# Altium footprint library 电机驱动芯片.PcbLib: 2 footprints
Each footprint in its own frame and in the unit in brackets; x right, y up, seen from the top. Pads: shape width x height; smd on the part's side, far side on the other; paste and mask are expansions set on the pad; w line width, h text height; cw(c..) or ccw(c..) is an arc to the next point about the centre after c.
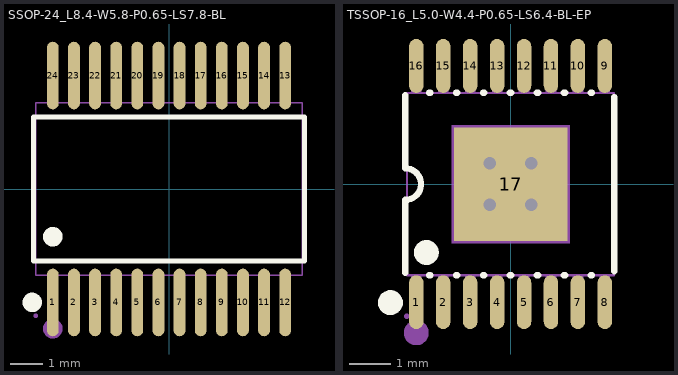
[diagram p0: the footprints below, top view; thin cyan lines are the x and y axes]

## SSOP-24_L8.4-W5.8-P0.65-LS7.8-BL [mm]
pads (24):
  oval 0.364x2.082 smd: 1(-3.575,-3.491) 2(-2.925,-3.491) 3(-2.275,-3.491) 4(-1.625,-3.491) 5(-0.975,-3.491) 6(-0.325,-3.491) 7(0.325,-3.491) 8(0.975,-3.491) 9(1.625,-3.491) 10(2.275,-3.491) 11(2.925,-3.491) 12(3.575,-3.491) 13(3.575,3.491) 14(2.925,3.491) 15(2.275,3.491) 16(1.625,3.491) 17(0.975,3.491) 18(0.325,3.491) 19(-0.325,3.491) 20(-0.975,3.491) 21(-1.625,3.491) 22(-2.275,3.491) 23(-2.925,3.491) 24(-3.575,3.491)
Top Overlay:
  circle w0.3: c-3.575,-1.469 r0.15
  circle w0.3: c-4.209,-3.491 r0.15
  lines w0.152: -4.176,-2.221 -4.176,2.221 4.176,2.221 4.176,-2.221 -4.176,-2.221
Mechanical 6:
  circle w0.3: c-3.575,-4.3 r0.15
Mechanical 15:
  drawing of 53 lines, arcs and shapes, not listed

## TSSOP-16_L5.0-W4.4-P0.65-LS6.4-BL-EP [mm]
pads (17):
  oval 0.35x1.3 smd: 1(-2.275,-2.85) 2(-1.625,-2.85) 3(-0.975,-2.85) 4(-0.325,-2.85) 5(0.325,-2.85) 6(0.975,-2.85) 7(1.625,-2.85) 8(2.275,-2.85) 9(2.275,2.85) 10(1.625,2.85) 11(0.975,2.85) 12(0.325,2.85) 13(-0.325,2.85) 14(-0.975,2.85) 15(-1.625,2.85) 16(-2.275,2.85)
  rect 2.74x2.74 smd: 17(0,0)
via 0.5,-0.5 diameter 0.61 hole 0.305
via -0.5,-0.5 diameter 0.61 hole 0.305
via -0.5,0.5 diameter 0.61 hole 0.305
via 0.5,0.5 diameter 0.61 hole 0.305
Top Overlay:
  circle w0.3: c-2.899,-2.86 r0.15
  circle w0.3: c-2.032,-1.651 r0.15
  lines w0.152: -2.54,-2.14 -2.54,-0.381 ccw(c-2.54,0) -2.54,0.381 -2.54,2.14 ; -1.966,-2.2 -1.934,-2.2 ; -1.966,2.2 -1.934,2.2 ; -1.316,-2.2 -1.284,-2.2 ; -1.316,2.2 -1.284,2.2 ; -0.666,-2.2 -0.634,-2.2 ; -0.666,2.2 -0.634,2.2 ; -0.016,-2.2 0.016,-2.2 ; -0.016,2.2 0.016,2.2 ; 0.634,-2.2 0.666,-2.2 ; 0.634,2.2 0.666,2.2 ; 1.284,-2.2 1.316,-2.2 ; 1.284,2.2 1.316,2.2 ; 1.934,-2.2 1.966,-2.2 ; 1.934,2.2 1.966,2.2 ; 2.5,-2.101 2.5,2.101
Mechanical 6:
  circle w0.3: c-2.275,-3.587 r0.15
Mechanical 15:
  drawing of 38 lines, arcs and shapes, not listed